# EAGLE library part MAX31865-SSOP (library MAX31865)
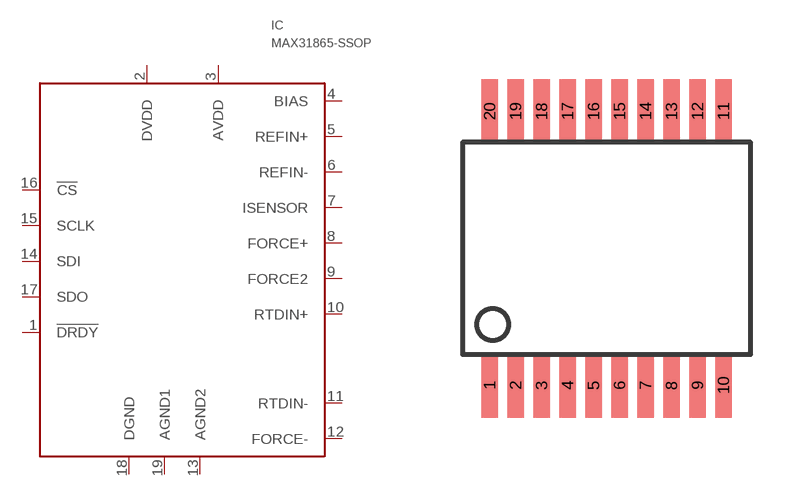
[diagram p1: symbol with the pads of SSOP20; footprint SSOP20]

Designator prefix IC

## MAX31865-SSOPSSOP  [SSOP20]
1  !DRDY  pas
2  DVDD  pas
3  AVDD  pas
4  BIAS  pas
5  REFIN+  pas
6  REFIN-  pas
7  ISENSOR  pas
8  FORCE+  pas
9  FORCE2  pas
10  RTDIN+  pas
11  RTDIN-  pas
12  FORCE-  pas
13  AGND2  pas
14  SDI  pas
15  SCLK  pas
16  !CS  pas
17  SDO  pas
18  DGND  pas
19  AGND1  pas

## Footprint SSOP20 (pad centres in mm)
smd 0.42 x 1.62: 1 -2.925,-3.425; 2 -2.275,-3.425; 3 -1.625,-3.425; 4 -0.975,-3.425; 5 -0.325,-3.425; 6 0.325,-3.425; 7 0.975,-3.425; 8 1.625,-3.425; 9 2.275,-3.425; 10 2.925,-3.425; 11 2.925,3.425; 12 2.275,3.425; 13 1.625,3.425; 14 0.975,3.425; 15 0.325,3.425; 16 -0.325,3.425; 17 -0.975,3.425; 18 -1.625,3.425; 19 -2.275,3.425; 20 -2.925,3.425